# Altium footprint library MY_LIB.PcbLib: 129 footprints (part 7 of 9)
Each footprint in its own frame and in the unit in brackets; x right, y up, seen from the top. Pads: shape width x height; smd on the part's side, far side on the other; paste and mask are expansions set on the pad; w line width, h text height; cw(c..) or ccw(c..) is an arc to the next point about the centre after c.
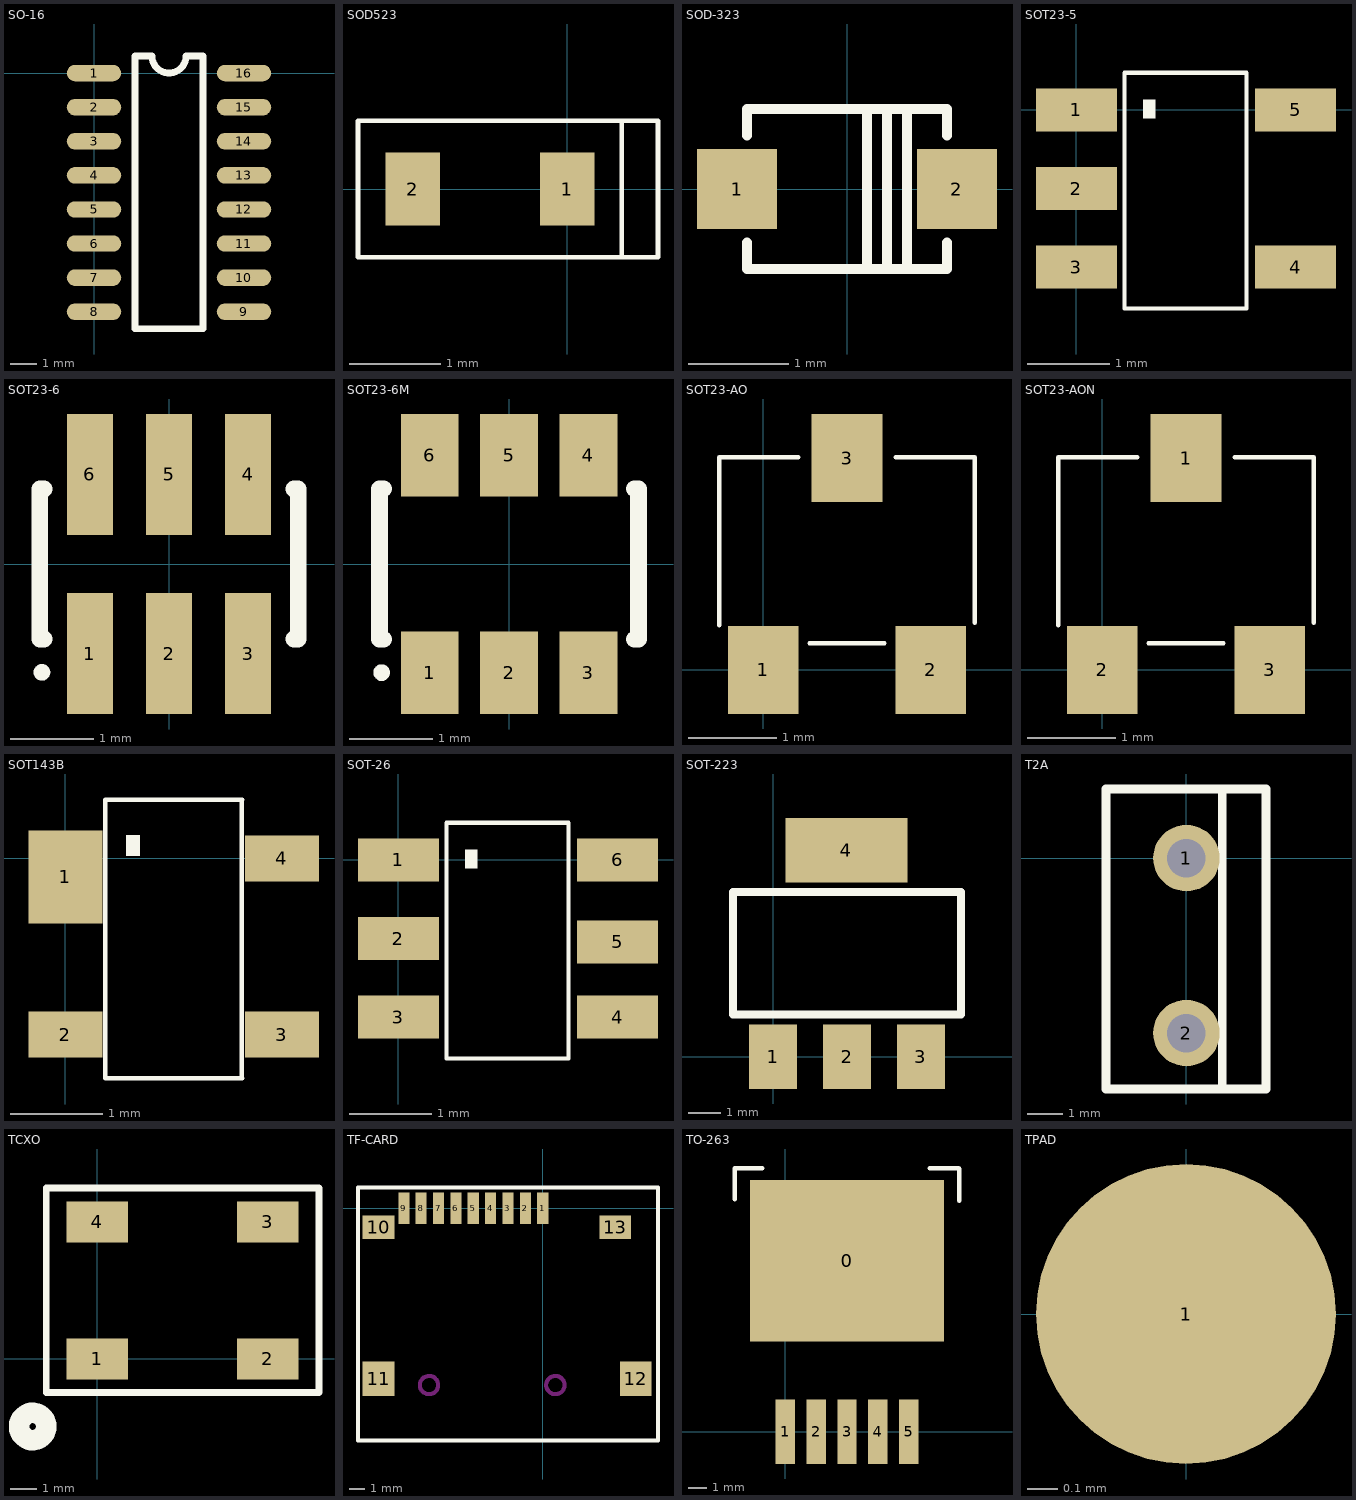
[diagram p6: the footprints below, top view; thin cyan lines are the x and y axes]

## SO-16 [mil]
pads (16):
  oval 80x24 smd: 1(0,0) 2(0,-50) 3(0,-100) 4(0,-150) 5(0,-200) 6(0,-250) 7(0,-300) 8(0,-350) 9(220,-350) 10(220,-300) 11(220,-250) 12(220,-200) 13(220,-150) 14(220,-100) 15(220,-50) 16(220,0)
Top Overlay:
  lines w10: 60,-375 160,-375 160,25 135,25 cw(c110,25) 85,25 60,25 60,-375

## SOD523 [mm]
pads (2):
  rect 0.6x0.8 smd: 1(0,0) 2(-1.7,0)
Top Overlay:
  lines w0.051: 0.6,-0.75 1,-0.75 1,0.75 0.6,0.75 ; 0.6,-0.75 0.6,0.75 ; 0.6,-0.75 -2.3,-0.75 -2.3,0.75 0.6,0.75

## SOD-323 [mm]
pads (2):
  rect 0.8x0.8 smd: 1(-1.1,0) 2(1.1,0)
Top Overlay:
  lines w0.1: -1,-0.533 -1,-0.8 1,-0.8 1,-0.533 ; -1,0.533 -1,0.8 1,0.8 1,0.533 ; 0.2,-0.8 0.2,0.8 ; 0.4,-0.8 0.4,0.8 ; 0.6,-0.8 0.6,0.8

## SOT23-5 [mm]
pads (5):
  rect 0.978x0.52 smd: 1(0,0) 2(0,-0.95) 3(0,-1.9) 4(2.65,-1.9) 5(2.65,0)
Top Overlay:
  rectangle: 0.807,-0.101 0.957,0.124
  lines w0.05: 0.582,-2.401 2.057,-2.401 2.057,0.449 0.582,0.449 0.582,-2.401

## SOT23-6 [mm] "SOT-457/SC-74; 6 Leads; Body 3 x 3 mm, inc. leads (LxW max)"
height 1.45
pads (6):
  rect 0.55x1.45 smd: 1(-0.95,-1.075) 2(0,-1.075) 3(0.95,-1.075) 4(0.95,1.075) 5(0,1.075) 6(-0.95,1.075)
Top Overlay:
  circle w0.1: c-1.525,-1.3 r0.05
  lines w0.2: -1.5,-0.9 -1.55,-0.9 -1.55,0.9 -1.5,0.9 ; 1.5,-0.9 1.55,-0.9 1.55,0.9 1.5,0.9

## SOT23-6M [mm] "SOT-457/SC-74; 6 Leads; Body 3 x 3 mm, inc. leads (LxW max)"
height 1.45
pads (6):
  rect 0.69x0.99 smd: 1(-0.95,-1.3) 2(0,-1.3) 3(0.95,-1.3) 4(0.95,1.3) 5(0,1.3) 6(-0.95,1.3)
Top Overlay:
  circle w0.1: c-1.525,-1.3 r0.05
  lines w0.2: -1.5,-0.9 -1.55,-0.9 -1.55,0.9 -1.5,0.9 ; 1.5,-0.9 1.55,-0.9 1.55,0.9 1.5,0.9

## SOT23-AO [mm]
pads (3):
  rect 0.8x1 smd: 1(0,0) 2(1.9,0) 3(0.95,2.4)
Top Overlay:
  lines w0.051: -0.5,0.508 -0.5,2.408 0.4,2.408 ; 0.525,0.3 1.375,0.3 ; 1.5,2.408 2.4,2.408 2.4,0.533

## SOT23-AON [mm]
pads (3):
  rect 0.8x1 smd: 1(0.95,2.4) 2(0,0) 3(1.9,0)
Top Overlay:
  lines w0.051: -0.5,0.508 -0.5,2.408 0.4,2.408 ; 0.525,0.3 1.375,0.3 ; 1.5,2.408 2.4,2.408 2.4,0.533

## SOT143B [mm]
pads (4):
  rect 0.8x1 smd: 1(0,-0.2)
  rect 0.8x0.5 smd: 2(0,-1.9) 3(2.337,-1.9) 4(2.337,0)
Top Overlay:
  rectangle: 0.655,0.026 0.805,0.251
  lines w0.05: 0.43,-2.373 0.43,0.627 ; 0.432,-2.373 1.907,-2.373 ; 0.432,0.635 1.907,0.635 ; 1.905,-2.373 1.905,0.627

## SOT-26 [mm]
pads (6):
  rect 0.978x0.52 smd: 1(0,0) 2(0,-0.95) 3(0,-1.9) 4(2.65,-1.9) 5(2.65,-0.991) 6(2.65,0)
Top Overlay:
  rectangle: 0.807,-0.101 0.957,0.124
  lines w0.05: 0.582,-2.401 2.057,-2.401 2.057,0.449 0.582,0.449 0.582,-2.401

## SOT-223 [mil]
pads (4):
  rect 59x79 smd: 1(0,0) 2(90.55,0) 3(181.1,0)
  rect 150x79 smd: 4(89.88,253.54)
Top Overlay:
  lines w10: -49.45,52 230.55,52 230.55,202 -49.45,202 -49.45,52

## T2A [mm]
pads (2):
  round 1.9 hole 1.1: 1(0,0) 2(0,-5)
Top Overlay:
  lines w0.254: 1,1.925 1.025,1.925 1.025,-6.475 ; -2.3,-6.6 -2.3,1.975 2.275,1.975 2.275,-6.6 -2.3,-6.6

## TCXO [mil]
pads (4):
  rect 90x60 smd: 1(0,0) 2(250,0) 3(250,201) 4(0,201)
Top Overlay:
  circle w30: c-95,-99 r20
  lines w10: -75,-49 -75,251 325,251 325,-49 -75,-49

## TF-CARD [mm]
pads (13):
  rect 0.7x2 smd: 1(0,0) 2(-1.1,0) 3(-2.2,-0.009) 4(-3.3,-0.009) 5(-4.4,-0.009) 6(-5.5,-0.009) 7(-6.6,-0.009) 8(-7.7,0) 9(-8.8,-0.009)
  rect 2x1.5 smd: 10(-10.4,-1.2) 13(4.6,-1.2)
  rect 2x2.2 smd mask+0.102: 11(-10.4,-10.8) 12(5.9,-10.8)
Top Overlay:
  lines w0.254: -11.7,-14.7 -11.7,1.3 7.3,1.3 7.3,-14.7 -11.7,-14.7
Keep-Out Layer:
  circle w0.254: c0.8,-11.2 r0.58
  circle w0.254: c-7.2,-11.2 r0.58

## TO-263 [mil]
pads (6):
  rect 420x350 smd: 0(134,370)
  rect 42x140 smd: 1(0,0) 2(67,0) 3(134,0) 4(201,0) 5(268,0)
Top Overlay:
  lines w10: -109,504 -109,571 -50,571 ; 313,571 376,571 377,570 377,500

## TPAD [mm]
pads (1):
  round 1 smd: 1(0,0)